# Altium footprint library PCB1.PcbLib: 43 footprints (part 2 of 3)
Each footprint in its own frame and in the unit in brackets; x right, y up, seen from the top. Pads: shape width x height; smd on the part's side, far side on the other; paste and mask are expansions set on the pad; w line width, h text height; cw(c..) or ccw(c..) is an arc to the next point about the centre after c.
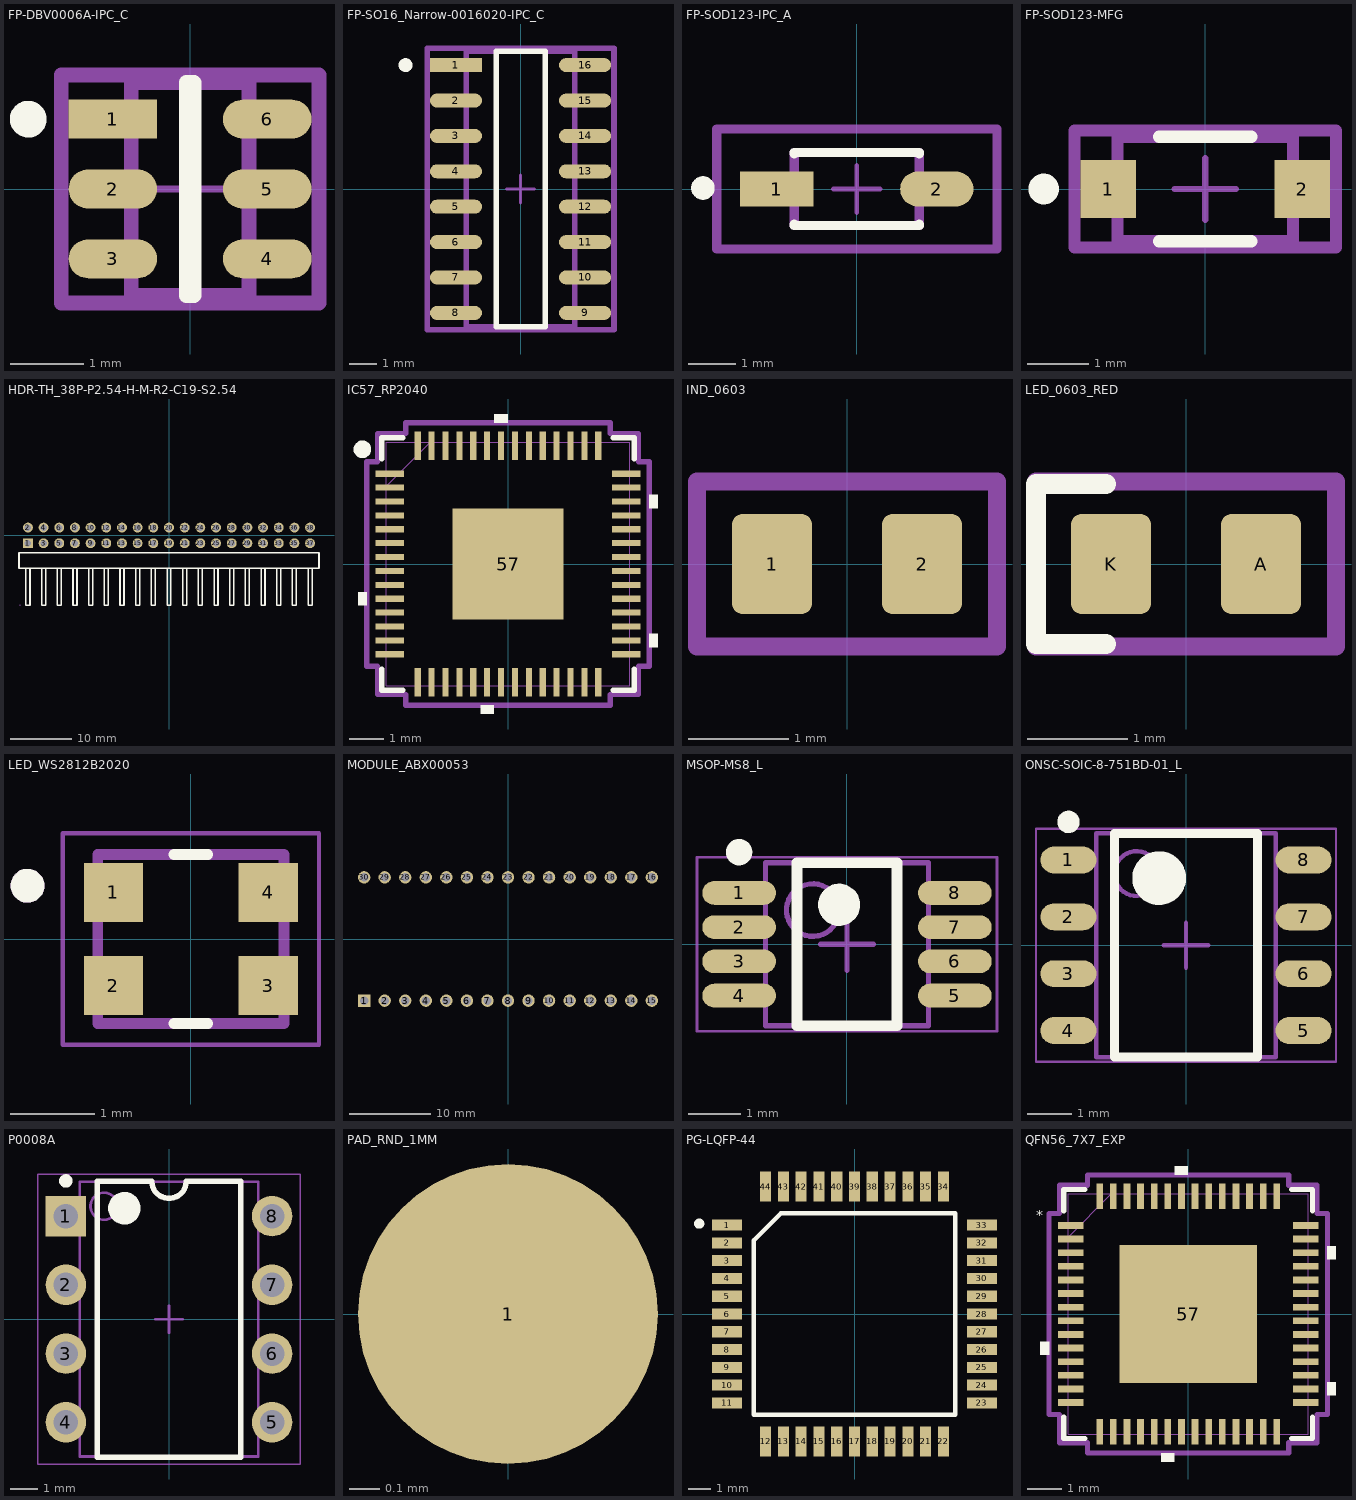
[diagram p1: the footprints below, top view; thin cyan lines are the x and y axes]

## FP-DBV0006A-IPC_C [mm]
pads (6):
  rect 1.205x0.53 smd paste+0 mask+0: 1(-1.05,0.95)
  rrect100% 1.205x0.53 smd paste+0 mask+0: 2(-1.05,0) 3(-1.05,-0.95) 4(1.05,-0.95) 5(1.05,0) 6(1.05,0.95)
Top Overlay:
  circle w0.25: c-2.203,0.95 r0.125
  lines w0.2: -0.052,-1.45 -0.052,1.45 0.052,1.45 0.052,-1.45 -0.052,-1.45
Top 3D Body:
  lines w0.2: -0.8,-1.45 0.8,-1.45 0.8,1.45 -0.8,1.45 -0.8,-1.45
Top Courtyard:
  lines w0.2: -1.753,-1.55 1.753,-1.55 1.753,1.55 -1.753,1.55 -1.753,-1.55
Top Assembly:
  lines w0.2: -1.753,-1.55 1.753,-1.55 1.753,1.55 -1.753,1.55 -1.753,-1.55
  text ".Designator" at 0,0.188 h1
Top Component Center:
  lines w0.1: -0.5,0 0.5,0 ; 0,-0.5 0,0.5
3D body "IC_Texas_Instruments_LM74700QDBVRQ1_eec.STEP": height 0.25, standoff 0, extent -1.753,-1.55 1.753,1.55

## FP-SO16_Narrow-0016020-IPC_C [mm]
pads (16):
  rect 1.874x0.501 smd paste+0 mask+0: 1(-2.316,4.445)
  rrect100% 1.874x0.501 smd paste+0 mask+0: 2(-2.316,3.175) 3(-2.316,1.905) 4(-2.316,0.635) 5(-2.316,-0.635) 6(-2.316,-1.905) 7(-2.316,-3.175) 8(-2.316,-4.445) 9(2.316,-4.445) 10(2.316,-3.175) 11(2.316,-1.905) 12(2.316,-0.635) 13(2.316,0.635) 14(2.316,1.905) 15(2.316,3.175) 16(2.316,4.445)
Top Overlay:
  circle w0.25: c-4.128,4.445 r0.125
  lines w0.2: -0.879,-4.95 0.879,-4.95 0.879,4.95 -0.879,4.95 -0.879,-4.95
Top 3D Body:
  lines w0.2: -1.95,-4.95 1.95,-4.95 1.95,4.95 -1.95,4.95 -1.95,-4.95
Top Courtyard:
  lines w0.2: -3.353,-5.05 3.353,-5.05 3.353,5.05 -3.353,5.05 -3.353,-5.05
Top Assembly:
  lines w0.2: -3.353,-5.05 3.353,-5.05 3.353,5.05 -3.353,5.05 -3.353,-5.05
  text ".Designator" at 0,0.188 h1
Top Component Center:
  lines w0.1: -0.5,0 0.5,0 ; 0,-0.5 0,0.5
3D body "IC_STMicroelectronics_L272D_eec.STEP": height 0.25, standoff 0, extent -3.353,-5.05 3.353,5.05

## FP-SOD123-IPC_A [mm]
pads (2):
  rect 1.557x0.742 smd paste+0 mask+0: 1(-1.7,0)
  rrect100% 1.557x0.742 smd paste+0 mask+0: 2(1.7,0)
Top Overlay:
  circle w0.25: c-3.27,0.021 r0.125
  lines w0.2: -1.325,-0.746 -1.325,-0.775 1.325,-0.775 1.325,-0.746 ; -1.325,0.746 -1.325,0.775 1.325,0.775 1.325,0.746
Top 3D Body:
  lines w0.2: -1.325,-0.775 1.325,-0.775 1.325,0.775 -1.325,0.775 -1.325,-0.775
Top Courtyard:
  lines w0.2: -2.979,-1.275 2.979,-1.275 2.979,1.275 -2.979,1.275 -2.979,-1.275
Top Assembly:
  lines w0.2: -2.979,-1.275 2.979,-1.275 2.979,1.275 -2.979,1.275 -2.979,-1.275
  text ".Designator" at 0,0.188 h1
Top Component Center:
  lines w0.1: -0.5,0 0.5,0 ; 0,-0.5 0,0.5
3D body "Diode_Diodes_Inc_MMSZ5245B-7-F_eec.STEP": height 0.25, standoff 0, extent -2.979,-1.275 2.979,1.275

## FP-SOD123-MFG [mm]
pads (2):
  rect 0.9x0.95 smd paste+0 mask+0: 1(-1.575,0) 2(1.575,0)
Top Overlay:
  circle w0.25: c-2.625,0 r0.125
  lines w0.2: -0.75,-0.85 0.75,-0.85 ; -0.75,0.85 0.75,0.85
Top 3D Body:
  lines w0.2: -1.425,-0.85 1.425,-0.85 1.425,0.85 -1.425,0.85 -1.425,-0.85
Top Courtyard:
  lines w0.2: -2.125,-0.95 2.125,-0.95 2.125,0.95 -2.125,0.95 -2.125,-0.95
Top Assembly:
  lines w0.2: -2.125,-0.95 2.125,-0.95 2.125,0.95 -2.125,0.95 -2.125,-0.95
  text ".Designator" at 0,-0.001 h1
Top Component Center:
  lines w0.1: -0.5,0 0.5,0 ; 0,-0.5 0,0.5
3D body "Diode_Diodes_Inc_B0520LW-7-F_eec.STEP": height 0.25, standoff 0, extent -2.125,-0.95 2.125,0.95

## HDR-TH_38P-P2.54-H-M-R2-C19-S2.54 [mm]
pads (38):
  rect 1.6x1.6 hole 1.05: 1(-22.86,-1.27)
  round 1.6 hole 1.05: 2(-22.86,1.27) 3(-20.32,-1.27) 4(-20.32,1.27) 5(-17.78,-1.27) 6(-17.78,1.27) 7(-15.24,-1.27) 8(-15.24,1.27) 9(-12.7,-1.27) 10(-12.7,1.27) 11(-10.16,-1.27) 12(-10.16,1.27) 13(-7.62,-1.27) 14(-7.62,1.27) 15(-5.08,-1.27) 16(-5.08,1.27) 17(-2.54,-1.27) 18(-2.54,1.27) 19(0,-1.27) 20(0,1.27) 21(2.54,-1.27) 22(2.54,1.27) 23(5.08,-1.27) 24(5.08,1.27) 25(7.62,-1.27) 26(7.62,1.27) 27(10.16,-1.27) 28(10.16,1.27) 29(12.7,-1.27) 30(12.7,1.27) 31(15.24,-1.27) 32(15.24,1.27) 33(17.78,-1.27) 34(17.78,1.27) 35(20.32,-1.27) 36(20.32,1.27) 37(22.86,-1.27) 38(22.86,1.27)
Top Overlay:
  lines w0.25: -23.18,-5.3 -23.18,-11.31 -22.53,-11.31 -22.53,-5.3 ; -20.63,-5.3 -20.63,-11.31 -20,-11.31 -20,-5.31 ; -18.09,-5.3 -18.09,-11.31 -17.45,-11.31 -17.45,-5.3 ; -15.56,-5.3 -15.56,-11.31 -14.91,-11.31 -14.91,-5.3 ; -13.01,-5.3 -13.01,-11.31 -12.38,-11.31 -12.38,-5.3 ; -10.47,-5.3 -10.47,-11.31 -9.83,-11.31 -9.83,-5.31 ; -7.94,-5.3 -7.94,-11.31 -7.29,-11.31 -7.29,-5.3 ; -5.39,-5.3 -5.39,-11.31 -4.75,-11.31 -4.75,-5.31 ; -2.85,-5.3 -2.85,-11.31 -2.21,-11.31 -2.21,-5.3 ; -0.31,-5.3 -0.31,-11.31 0.32,-11.31 0.32,-5.31 ; 2.23,-5.3 2.23,-11.31 2.87,-11.31 2.87,-5.31 ; 4.76,-5.3 4.76,-11.31 5.41,-11.31 5.41,-5.3 ; 7.31,-5.3 7.31,-11.31 7.94,-11.31 7.94,-5.3 ; 9.85,-5.3 9.85,-11.31 10.49,-11.31 10.49,-5.3 ; 12.38,-5.3 12.38,-11.31 13.03,-11.31 13.03,-5.31 ; 14.93,-5.3 14.93,-11.31 15.56,-11.31 15.56,-5.31 ; 17.47,-5.3 17.47,-11.31 18.11,-11.31 18.11,-5.31 ; 20,-5.3 20,-11.31 20.65,-11.31 20.65,-5.3 ; 22.55,-5.3 22.55,-11.31 23.19,-11.31 23.19,-5.31 ; -24.31,-5.3 -24.31,-2.81 24.31,-2.81 24.31,-5.3 -24.31,-5.3
Mechanical 6:
  circle w0.06: c-24.13,-11.31 r0.03
  text "'.Designator'" at -4.047,-0.84 h1
3D body "HDR-TH_38P-P2.54-M-WI-2X19P.step": height 5, standoff -3, extent -24.14,-11.314 24.13,1.586

## IC57_RP2040 [mil]
pads (57):
  rect 32x7 smd paste+0 mask+0: 1(-134,102.36) 2(-134,86.61) 3(-134,70.87) 4(-134,55.12) 5(-134,39.37) 6(-134,23.62) 7(-134,7.87) 8(-134,-7.87) 9(-134,-23.62) 10(-134,-39.37) 11(-134,-55.12) 12(-134,-70.87) 13(-134,-86.61) 14(-134,-102.36) 29(134,-102.36) 30(134,-86.61) 31(134,-70.87) 32(134,-55.12) 33(134,-39.37) 34(134,-23.62) 35(134,-7.87) 36(134,7.87) 37(134,23.62) 38(134,39.37) 39(134,55.12) 40(134,70.87) 41(134,86.61) 42(134,102.36)
  rect 7x32 smd paste+0 mask+0: 15(-102.36,-134) 16(-86.61,-134) 17(-70.87,-134) 18(-55.12,-134) 19(-39.37,-134) 20(-23.62,-134) 21(-7.87,-134) 22(7.87,-134) 23(23.62,-134) 24(39.37,-134) 25(55.12,-134) 26(70.87,-134) 27(86.61,-134) 28(102.36,-134) 43(102.36,134) 44(86.61,134) 45(70.87,134) 46(55.12,134) 47(39.37,134) 48(23.62,134) 49(7.87,134) 50(-7.87,134) 51(-23.62,134) 52(-39.37,134) 53(-55.12,134) 54(-70.87,134) 55(-86.61,134) 56(-102.36,134)
  rect 126x126 smd paste-63 mask+0: 57(0,0)
Top Overlay:
  circle w10: c-165,130 r5
  region: -160,-31.87 -170,-31.87 -170,-46.87 -160,-46.87
  region: -16.12,-160 -31.12,-160 -31.12,-170 -16.12,-170
  region: 160,-79.11 170,-79.11 170,-94.11 160,-94.11
  region: 160,78.37 170,78.37 170,63.37 160,63.37
  region: -0.37,160 -15.37,160 -15.37,170 -0.37,170
  lines w6: -143,-118.96 -143,-143 -118.96,-143 ; -143,118.96 -143,143 -118.96,143 ; 118.96,-143 143,-143 143,-118.96 ; 118.96,143 143,143 143,118.96
Top Paste:
  region: -3.94,59.06 -59.06,59.06 -59.06,3.94 -3.94,3.94
  region: -3.94,-3.94 -59.06,-3.94 -59.06,-59.06 -3.94,-59.06
  region: 59.06,59.06 3.94,59.06 3.94,3.94 59.06,3.94
  region: 59.06,-3.94 3.94,-3.94 3.94,-59.06 59.06,-59.06
Mechanical 13:
  lines w1: -138,88 -88,138 ; -138,-138 138,-138 138,138 -138,138 -138,-138 ; -138,-106.86 -138,-97.86 -138,-106.86 ; -138,-91.11 -138,-82.11 -138,-91.11 ; -138,-75.37 -138,-66.37 -138,-75.37 ; -138,-59.62 -138,-50.62 -138,-59.62 ; -138,-43.87 -138,-34.87 -138,-43.87 ; -138,-28.12 -138,-19.12 -138,-28.12 ; -138,-12.37 -138,-3.37 -138,-12.37 ; -138,3.37 -138,12.37 -138,3.37 ; -138,19.12 -138,28.12 -138,19.12 ; -138,34.87 -138,43.87 -138,34.87 ; -138,50.62 -138,59.62 -138,50.62 ; -138,66.37 -138,75.37 -138,66.37 ; -138,82.11 -138,91.11 -138,82.11 ; -138,97.86 -138,106.86 -138,97.86 ; -106.86,-138 -97.86,-138 -106.86,-138 ; -106.86,138 -97.86,138 -106.86,138 ; -91.11,-138 -82.11,-138 -91.11,-138 ; -91.11,138 -82.11,138 -91.11,138 ; -75.37,-138 -66.37,-138 -75.37,-138 ; -75.37,138 -66.37,138 -75.37,138 ; -59.62,-138 -50.62,-138 -59.62,-138 ; -59.62,138 -50.62,138 -59.62,138 ; -43.87,-138 -34.87,-138 -43.87,-138 ; -43.87,138 -34.87,138 -43.87,138 ; -28.12,-138 -19.12,-138 -28.12,-138 ; -28.12,138 -19.12,138 -28.12,138 ; -12.37,-138 -3.37,-138 -12.37,-138 ; -12.37,138 -3.37,138 -12.37,138 ; 3.37,-138 12.37,-138 3.37,-138 ; 3.37,138 12.37,138 3.37,138 ; 19.12,-138 28.12,-138 19.12,-138 ; 19.12,138 28.12,138 19.12,138 ; 34.87,-138 43.87,-138 34.87,-138 ; 34.87,138 43.87,138 34.87,138 ; 50.62,-138 59.62,-138 50.62,-138 ; 50.62,138 59.62,138 50.62,138 ; 66.37,-138 75.37,-138 66.37,-138 ; 66.37,138 75.37,138 66.37,138 ; 82.11,-138 91.11,-138 82.11,-138 ; 82.11,138 91.11,138 82.11,138 ; 97.86,-138 106.86,-138 97.86,-138 ; 97.86,138 106.86,138 97.86,138 ; 138,-106.86 138,-97.86 138,-106.86 ; 138,-91.11 138,-82.11 138,-91.11 ; 138,-75.37 138,-66.37 138,-75.37 ; 138,-59.62 138,-50.62 138,-59.62 ; 138,-43.87 138,-34.87 138,-43.87 ; 138,-28.12 138,-19.12 138,-28.12 ; 138,-12.37 138,-3.37 138,-12.37 ; 138,3.37 138,12.37 138,3.37 ; 138,19.12 138,28.12 138,19.12 ; 138,34.87 138,43.87 138,34.87 ; 138,50.62 138,59.62 138,50.62 ; 138,66.37 138,75.37 138,66.37 ; 138,82.11 138,91.11 138,82.11 ; 138,97.86 138,106.86 138,97.86
Mechanical 15:
  lines w6: -160,-115.86 -148,-115.86 -148,-148 -115.86,-148 -115.86,-160 115.86,-160 115.86,-148 148,-148 148,-115.86 160,-115.86 160,115.86 148,115.86 148,148 115.86,148 115.86,160 -115.86,160 -115.86,148 -148,148 -148,115.86 -160,115.86 -160,-115.86
3D body "IC57_RP2040.step": height 35.12, standoff 0, extent -137.99,-137.99 137.99,137.99

## IND_0603 [mm]
pads (2):
  rrect25% 0.8x1 smd: 1(-0.75,0) 2(0.75,0)
Mechanical 13:
  lines w0.175: -1.5,-0.825 1.5,-0.825 1.5,0.825 -1.5,0.825 -1.5,-0.825
  text "'.Designator'" at -5.665,-0.417 h1
3D body "L0603.step": height 0.87, standoff 0.01, extent -0.81,-0.365 0.81,0.365

## LED_0603_RED [mm]
pads (2):
  rrect25% 0.8x1 smd: A(0.75,0) K(-0.75,0)
Top Overlay:
  lines w0.2: -0.8,-0.8 -1.5,-0.8 -1.5,0.8 -0.8,0.8
Mechanical 13:
  lines w0.175: -1.5,-0.825 1.5,-0.825 1.5,0.825 -1.5,0.825 -1.5,-0.825
  text "'.Designator'" at -5.665,-0.417 h1
  text "+" at 1.317,0.608 h0.5
3D body "LED_0603_RED.step": height 0.6, standoff 0, extent -0.8,-0.4 0.8,0.4

## LED_WS2812B2020 [mm]
height 0.84
pads (4):
  rect 0.7x0.7 smd: 1(-0.915,0.55) 2(-0.915,-0.55) 3(0.915,-0.55) 4(0.915,0.55)
Top Overlay:
  circle w0.2: c-1.931,0.63 r0.1
  lines w0.127: -0.2,-1 0.2,-1 ; -0.2,1 0.2,1
Mechanical 13:
  circle w0.2: c-1.931,0.63 r0.1
  lines w0.127: -1.1,-1 -1.1,1 1.1,1 1.1,-1 -1.1,-1
Mechanical 15:
  lines w0.05: -1.515,-1.25 1.515,-1.25 1.515,1.25 -1.515,1.25 -1.515,-1.25
3D body "step_temp.STEP": height 0.84, standoff 0, extent -1.1,-1 1.1,1

## MODULE_ABX00053 [mil]
pads (30):
  rect 60x60 / inner round 60 / far side rect 60x60 hole 40: 1(-700,-300)
  round 60 hole 40: 2(-600,-300) 3(-500,-300) 4(-400,-300) 5(-300,-300) 6(-200,-300) 7(-100,-300) 8(0,-300) 9(100,-300) 10(200,-300) 11(300,-300) 12(400,-300) 13(500,-300) 14(600,-300) 15(700,-300) 16(700,300) 17(600,300) 18(500,300) 19(400,300) 20(300,300) 21(200,300) 22(100,300) 23(0,300) 24(-100,300) 25(-200,300) 26(-300,300) 27(-400,300) 28(-500,300) 29(-600,300) 30(-700,300)

## MSOP-MS8_L [mm] "TSOP, 8-Leads, Body 3x3mm, Pitch 0.65mm, IPC High Density"
height 1.1
pads (8):
  oval 1.4x0.45 smd: 1(-2.05,0.975) 2(-2.05,0.325) 3(-2.05,-0.325) 4(-2.05,-0.975) 5(2.05,-0.975) 6(2.05,-0.325) 7(2.05,0.325) 8(2.05,0.975)
Top Overlay:
  circle w0.25: c-2.05,1.75 r0.125
  circle w0.4: c-0.15,0.75 r0.2
  lines w0.2: -0.95,-1.55 -0.95,1.55 0.95,1.55 0.95,-1.55 -0.95,-1.55
Mechanical 13:
  circle w0.1: c-0.65,0.65 r0.5
  lines w0.1: -1.55,-1.55 -1.55,1.55 1.55,1.55 1.55,-1.55 -1.55,-1.55
Mechanical 15:
  lines w0.05: -2.85,-1.65 -2.85,1.65 2.85,1.65 2.85,-1.65 -2.85,-1.65
  lines w0.1: -0.5,0 0.5,0 ; 0,-0.5 0,0.5
3D body: height 1.1, standoff 0, extent -1.55,-1.55 1.55,1.55

## ONSC-SOIC-8-751BD-01_L [mm] "SOIC, 8-Leads, Body 4.90x3.90mm, Pitch 1.27mm, IPC High Density"
height 1.75
pads (8):
  oval 1.25x0.6 smd: 1(-2.625,1.905) 2(-2.625,0.635) 3(-2.625,-0.635) 4(-2.625,-1.905) 5(2.625,-1.905) 6(2.625,-0.635) 7(2.625,0.635) 8(2.625,1.905)
Top Overlay:
  circle w0.6: c-0.6,1.5 r0.3
  circle w0.25: c-2.625,2.755 r0.125
  lines w0.2: -1.6,-2.5 1.6,-2.5 1.6,2.5 -1.6,2.5 -1.6,-2.5
Mechanical 13:
  circle w0.1: c-1.1,1.6 r0.5
  lines w0.1: -2,-2.5 2,-2.5 2,2.5 -2,2.5 -2,-2.5
Mechanical 15:
  lines w0.05: -3.35,-2.6 3.35,-2.6 3.35,2.6 -3.35,2.6 -3.35,-2.6
  lines w0.1: -0.5,0 0.5,0 ; 0,-0.5 0,0.5
3D body "SOIC127P600X175-8L.step": height 1.75, standoff 0, extent -3,-2.5 3,2.5

## P0008A [mm] "DIP, 8-Leads, Body 10.15x6.6mm, Pitch 2.54mm"
height 5.08
pads (8):
  rect 1.5x1.5 hole 0.9: 1(-3.81,3.81)
  round 1.5 hole 0.9: 2(-3.81,1.27) 3(-3.81,-1.27) 4(-3.81,-3.81) 5(3.81,-3.81) 6(3.81,-1.27) 7(3.81,1.27) 8(3.81,3.81)
Top Overlay:
  circle w0.6: c-1.65,4.1 r0.3
  circle w0.25: c-3.81,5.11 r0.125
  lines w0.2: -2.65,-5.1 2.65,-5.1 2.65,5.1 0.635,5.1 cw(c0,5.1) -0.635,5.1 -2.65,5.1 -2.65,-5.1
Mechanical 1:
  text ".Designator" at -1.524,-0.508 h1.02
Mechanical 13:
  circle w0.1: c-2.4,4.175 r0.5
  lines w0.1: -3.3,-5.075 3.3,-5.075 3.3,5.075 -3.3,5.075 -3.3,-5.075
Mechanical 15:
  lines w0.05: -4.85,-5.35 4.85,-5.35 4.85,5.35 -4.85,5.35 -4.85,-5.35
  lines w0.1: -0.5,0 0.5,0 ; 0,-0.5 0,0.5
3D body: height 5.08, standoff 0.51, extent -3.3,-5.075 3.3,5.075
3D body: height 0, standoff -1.6, extent 3.675,3.45 3.945,4.17
3D body: height 2.93, standoff 2.66, extent 3.3,3.31 3.945,4.31
3D body: height 2.66, standoff 0, extent 3.675,3.31 3.945,4.31
3D body: height 0, standoff -1.6, extent 3.675,0.91 3.945,1.63
3D body: height 2.93, standoff 2.66, extent 3.3,0.77 3.945,1.77
3D body: height 2.66, standoff 0, extent 3.675,0.77 3.945,1.77
3D body: height 0, standoff -1.6, extent 3.675,-1.63 3.945,-0.91
3D body: height 2.93, standoff 2.66, extent 3.3,-1.77 3.945,-0.77
3D body: height 2.66, standoff 0, extent 3.675,-1.77 3.945,-0.77
3D body: height 0, standoff -1.6, extent 3.675,-4.17 3.945,-3.45
3D body: height 2.93, standoff 2.66, extent 3.3,-4.31 3.945,-3.31
3D body: height 2.66, standoff 0, extent 3.675,-4.31 3.945,-3.31
3D body: height 0, standoff -1.6, extent -3.945,-4.17 -3.675,-3.45
3D body: height 2.93, standoff 2.66, extent -3.945,-4.31 -3.3,-3.31
3D body: height 2.66, standoff 0, extent -3.945,-4.31 -3.675,-3.31
3D body: height 0, standoff -1.6, extent -3.945,-1.63 -3.675,-0.91
3D body: height 2.93, standoff 2.66, extent -3.945,-1.77 -3.3,-0.77
3D body: height 2.66, standoff 0, extent -3.945,-1.77 -3.675,-0.77
3D body: height 0, standoff -1.6, extent -3.945,0.91 -3.675,1.63
3D body: height 2.93, standoff 2.66, extent -3.945,0.77 -3.3,1.77
3D body: height 2.66, standoff 0, extent -3.945,0.77 -3.675,1.77
3D body: height 0, standoff -1.6, extent -3.945,3.45 -3.675,4.17
3D body: height 2.93, standoff 2.66, extent -3.945,3.31 -3.3,4.31
3D body: height 2.66, standoff 0, extent -3.945,3.31 -3.675,4.31

## PAD_RND_1MM [mm]
pads (1):
  round 1 smd paste-0.5 mask+0: 1(0,0)

## PG-LQFP-44 [mm]
pads (44):
  rect 1.35x0.5 smd: 1(-5.735,4) 2(-5.735,3.2) 3(-5.735,2.4) 4(-5.735,1.6) 5(-5.735,0.8) 6(-5.735,0) 7(-5.735,-0.8) 8(-5.735,-1.6) 9(-5.735,-2.4) 10(-5.735,-3.2) 11(-5.735,-4) 23(5.735,-4) 24(5.735,-3.2) 25(5.735,-2.4) 26(5.735,-1.6) 27(5.735,-0.8) 28(5.735,0) 29(5.735,0.8) 30(5.735,1.6) 31(5.735,2.4) 32(5.735,3.2) 33(5.735,4)
  rect 0.5x1.35 smd: 12(-4,-5.735) 13(-3.2,-5.735) 14(-2.4,-5.735) 15(-1.6,-5.735) 16(-0.8,-5.735) 17(0,-5.735) 18(0.8,-5.735) 19(1.6,-5.735) 20(2.4,-5.735) 21(3.2,-5.735) 22(4,-5.735) 34(4,5.735) 35(3.2,5.735) 36(2.4,5.735) 37(1.6,5.735) 38(0.8,5.735) 39(0,5.735) 40(-0.8,5.735) 41(-1.6,5.735) 42(-2.4,5.735) 43(-3.2,5.735) 44(-4,5.735)
Top Overlay:
  circle w0.254: c-6.985,4.064 r0.1
  lines w0.2: -4.525,-4.525 -4.525,3.315 -3.315,4.525 4.525,4.525 4.525,-4.525 -4.525,-4.525
3D body "User Library-lqfp44-1.STEP": height 1.5, standoff 0.02, extent -6,-6 6,6

## QFN56_7X7_EXP [mm]
pads (57):
  rect 0.755x0.199 smd paste+0 mask+0: 1(-3.452,2.6) 2(-3.452,2.2) 3(-3.452,1.8) 4(-3.452,1.4) 5(-3.452,1) 6(-3.452,0.6) 7(-3.452,0.2) 8(-3.452,-0.2) 9(-3.452,-0.6) 10(-3.452,-1) 11(-3.452,-1.4) 12(-3.452,-1.8) 13(-3.452,-2.2) 14(-3.452,-2.6) 29(3.452,-2.6) 30(3.452,-2.2) 31(3.452,-1.8) 32(3.452,-1.4) 33(3.452,-1) 34(3.452,-0.6) 35(3.452,-0.2) 36(3.452,0.2) 37(3.452,0.6) 38(3.452,1) 39(3.452,1.4) 40(3.452,1.8) 41(3.452,2.2) 42(3.452,2.6)
  rect 0.199x0.755 smd paste+0 mask+0: 15(-2.6,-3.452) 16(-2.2,-3.452) 17(-1.8,-3.452) 18(-1.4,-3.452) 19(-1,-3.452) 20(-0.6,-3.452) 21(-0.2,-3.452) 22(0.2,-3.452) 23(0.6,-3.452) 24(1,-3.452) 25(1.4,-3.452) 26(1.8,-3.452) 27(2.2,-3.452) 28(2.6,-3.452) 43(2.6,3.452) 44(2.2,3.452) 45(1.8,3.452) 46(1.4,3.452) 47(1,3.452) 48(0.6,3.452) 49(0.2,3.452) 50(-0.2,3.452) 51(-0.6,3.452) 52(-1,3.452) 53(-1.4,3.452) 54(-1.8,3.452) 55(-2.2,3.452) 56(-2.6,3.452)
  rect 4.039x4.039 smd paste-2.019 mask+0: 57(0,0)
Top Overlay:
  region: -0.009,4.084 -0.39,4.084 -0.39,4.338 -0.01,4.338
  region: 4.084,1.99 4.338,1.99 4.338,1.609 4.084,1.609
  region: 4.084,-2.01 4.338,-2.01 4.338,-2.391 4.084,-2.39
  region: -0.409,-4.084 -0.79,-4.084 -0.79,-4.338 -0.409,-4.338
  region: -4.084,-0.81 -4.338,-0.81 -4.338,-1.191 -4.084,-1.191
  lines w0.152: -3.652,-3.032 -3.652,-3.652 -3.032,-3.652 ; -3.652,3.032 -3.652,3.652 -3.032,3.652 ; 3.032,-3.652 3.652,-3.652 3.652,-3.032 ; 3.032,3.652 3.652,3.652 3.652,3.032
  text "*" at -4.468,2.759 h0.3
Top Paste:
  region: 1.919,-0.773 0.773,-0.773 0.773,-1.919 1.919,-1.919
  region: 1.919,0.573 0.773,0.573 0.773,-0.573 1.919,-0.573
  region: 1.919,1.919 0.773,1.919 0.773,0.773 1.919,0.773
  region: 0.573,-0.773 -0.573,-0.773 -0.573,-1.919 0.573,-1.919
  region: 0.573,0.573 -0.573,0.573 -0.573,-0.573 0.573,-0.573
  region: 0.573,1.919 -0.573,1.919 -0.573,0.773 0.573,0.773
  region: -0.773,-0.773 -1.919,-0.773 -1.919,-1.919 -0.773,-1.919
  region: -0.773,0.573 -1.919,0.573 -1.919,-0.573 -0.773,-0.573
  region: -0.773,1.919 -1.919,1.919 -1.919,0.773 -0.773,0.773
Mechanical 13:
  lines w0.025: -3.525,2.255 -2.255,3.525 ; -3.525,-3.525 -3.525,3.525 3.525,3.525 3.525,-3.525 -3.525,-3.525 ; -3.525,-2.725 -3.525,-2.475 -3.525,-2.725 ; -3.525,-2.325 -3.525,-2.075 -3.525,-2.325 ; -3.525,-1.925 -3.525,-1.675 -3.525,-1.925 ; -3.525,-1.525 -3.525,-1.275 -3.525,-1.525 ; -3.525,-1.125 -3.525,-0.875 -3.525,-1.125 ; -3.525,-0.725 -3.525,-0.475 -3.525,-0.725 ; -3.525,-0.325 -3.525,-0.075 -3.525,-0.325 ; -3.525,0.075 -3.525,0.325 -3.525,0.075 ; -3.525,0.475 -3.525,0.725 -3.525,0.475 ; -3.525,0.875 -3.525,1.125 -3.525,0.875 ; -3.525,1.275 -3.525,1.525 -3.525,1.275 ; -3.525,1.675 -3.525,1.925 -3.525,1.675 ; -3.525,2.075 -3.525,2.325 -3.525,2.075 ; -3.525,2.475 -3.525,2.725 -3.525,2.475 ; -2.725,-3.525 -2.475,-3.525 -2.725,-3.525 ; -2.725,3.525 -2.475,3.525 -2.725,3.525 ; -2.325,-3.525 -2.075,-3.525 -2.325,-3.525 ; -2.325,3.525 -2.075,3.525 -2.325,3.525 ; -1.925,-3.525 -1.675,-3.525 -1.925,-3.525 ; -1.925,3.525 -1.675,3.525 -1.925,3.525 ; -1.525,-3.525 -1.275,-3.525 -1.525,-3.525 ; -1.525,3.525 -1.275,3.525 -1.525,3.525 ; -1.125,-3.525 -0.875,-3.525 -1.125,-3.525 ; -1.125,3.525 -0.875,3.525 -1.125,3.525 ; -0.725,-3.525 -0.475,-3.525 -0.725,-3.525 ; -0.725,3.525 -0.475,3.525 -0.725,3.525 ; -0.325,-3.525 -0.075,-3.525 -0.325,-3.525 ; -0.325,3.525 -0.075,3.525 -0.325,3.525 ; 0.075,-3.525 0.325,-3.525 0.075,-3.525 ; 0.075,3.525 0.325,3.525 0.075,3.525 ; 0.475,-3.525 0.725,-3.525 0.475,-3.525 ; 0.475,3.525 0.725,3.525 0.475,3.525 ; 0.875,-3.525 1.125,-3.525 0.875,-3.525 ; 0.875,3.525 1.125,3.525 0.875,3.525 ; 1.275,-3.525 1.525,-3.525 1.275,-3.525 ; 1.275,3.525 1.525,3.525 1.275,3.525 ; 1.675,-3.525 1.925,-3.525 1.675,-3.525 ; 1.675,3.525 1.925,3.525 1.675,3.525 ; 2.075,-3.525 2.325,-3.525 2.075,-3.525 ; 2.075,3.525 2.325,3.525 2.075,3.525 ; 2.475,-3.525 2.725,-3.525 2.475,-3.525 ; 2.475,3.525 2.725,3.525 2.475,3.525 ; 3.525,-2.725 3.525,-2.475 3.525,-2.725 ; 3.525,-2.325 3.525,-2.075 3.525,-2.325 ; 3.525,-1.925 3.525,-1.675 3.525,-1.925 ; 3.525,-1.525 3.525,-1.275 3.525,-1.525 ; 3.525,-1.125 3.525,-0.875 3.525,-1.125 ; 3.525,-0.725 3.525,-0.475 3.525,-0.725 ; 3.525,-0.325 3.525,-0.075 3.525,-0.325 ; 3.525,0.075 3.525,0.325 3.525,0.075 ; 3.525,0.475 3.525,0.725 3.525,0.475 ; 3.525,0.875 3.525,1.125 3.525,0.875 ; 3.525,1.275 3.525,1.525 3.525,1.275 ; 3.525,1.675 3.525,1.925 3.525,1.675 ; 3.525,2.075 3.525,2.325 3.525,2.075 ; 3.525,2.475 3.525,2.725 3.525,2.475
Mechanical 15:
  lines w0.152: -4.084,-2.954 -4.084,2.954 -3.779,2.954 -3.779,3.779 -2.954,3.779 -2.954,4.084 2.954,4.084 2.954,3.779 3.779,3.779 3.779,2.954 4.084,2.954 4.084,-2.954 3.779,-2.954 3.779,-3.779 2.954,-3.779 2.954,-4.084 -2.954,-4.084 -2.954,-3.779 -3.779,-3.779 -3.779,-2.954 -4.084,-2.954
3D body "QFN56_7X7_EXP.step": height 0.89, standoff 0, extent -3.525,-3.525 3.525,3.525